# EAGLE library part 74*51 (library 74xx-eu)
AND-OR-INVERT gates/for S-type see 74S51 <DEVICE:74S51>
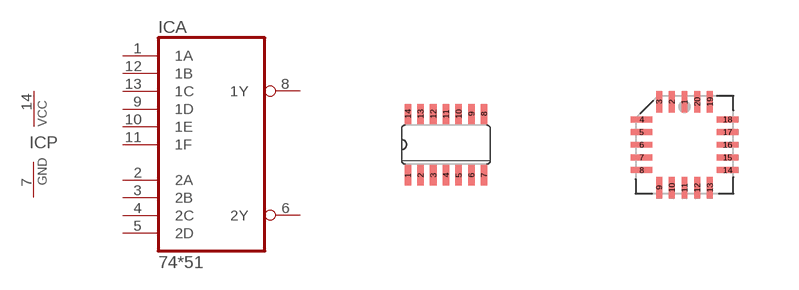
[diagram p38: symbol with the pads of SO14; footprints SO14, PLCC20]

Designator prefix IC; gates A=74LS51 P=PWRN

## 7451D, 74HC51D, 74LS51D  [SO14]
1  A:1A  in
2  A:2A  in
3  A:2B  in
4  A:2C  in
5  A:2D  in
6  A:2Y  out
7  P:GND  pwr
8  A:1Y  out
9  A:1D  in
10  A:1E  in
11  A:1F  in
12  A:1B  in
13  A:1C  in
14  P:VCC  pwr

## 7451FK, 74HC51FK, 74LS51FK  [PLCC20]
2  A:1A  in
3  A:2A  in
4  A:2B  in
6  A:2C  in
8  A:2D  in
9  A:2Y  out
10  P:GND  pwr
12  A:1Y  out
13  A:1D  in
14  A:1E  in
16  A:1F  in
18  A:1B  in
19  A:1C  in
20  P:VCC  pwr

## 7451N, 74HC51N, 74LS51N  [DIL14]
Pads as for SO14

## Footprint SO14 (pad centres in mm)
Small Outline package 150 mil
smd 0.165 x 0.508: 1 -0.953,-0.768; 2 -0.635,-0.768; 3 -0.318,-0.768; 4 0,-0.768; 5 0.318,-0.768; 6 0.635,-0.768; 7 0.953,-0.768; 8 0.953,0.768; 9 0.635,0.768; 10 0.318,0.768; 11 0,0.768; 12 -0.318,0.768; 13 -0.635,0.768; 14 -0.953,0.768

## Footprint PLCC20 (pad centres in mm)
Plastic Leaded Chip Carrier IPC standard
smd 0.15 x 0.55: 1 0,1.075; 2 -0.318,1.075; 3 -0.635,1.075; 9 -0.635,-1.075; 10 -0.318,-1.075; 11 0,-1.075; 12 0.318,-1.075; 13 0.635,-1.075; 19 0.635,1.075; 20 0.318,1.075
smd 0.55 x 0.15: 4 -1.075,0.635; 5 -1.075,0.318; 6 -1.075,0; 7 -1.075,-0.318; 8 -1.075,-0.635; 14 1.075,-0.635; 15 1.075,-0.318; 16 1.075,0; 17 1.075,0.318; 18 1.075,0.635

## Footprint DIL14 (pad centres in mm)
Dual In Line Package
drill 0.203 long: 1 -1.905,-0.953; 2 -1.27,-0.953; 3 -0.635,-0.953; 4 0,-0.953; 5 0.635,-0.953; 6 1.27,-0.953; 7 1.905,-0.953; 8 1.905,0.953; 9 1.27,0.953; 10 0.635,0.953; 11 0,0.953; 12 -0.635,0.953; 13 -1.27,0.953; 14 -1.905,0.953